# EAGLE library part TMP75C (library My_TI)
TMP75C 1.8-V Digital Temperature Sensor. • Operating Supply Range: 1.4 V to 3.6 V • Quiescent Current: – 15 μA Active (typ) – 0.3 μA Shutdown (typ) • Resolution: 12 Bits (0.0625°C) Datasheet <http://www.ti.com/lit/ds/symlink/tmp75c.pdf>
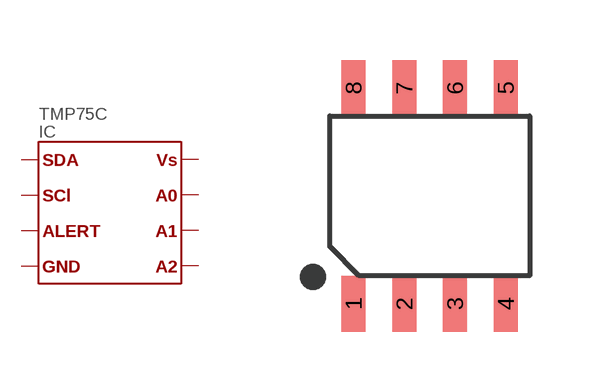
[diagram p52: symbol with the pads of SOIC8-1.27-5X4MM; footprint SOIC8-1.27-5X4MM]

Designator prefix IC

## TMP75C  [SOIC8-1.27-5X4MM]
1  P$1
2  P$2
3  P$3
4  P$4
5  P$5
6  P$6
7  P$7
8  P$8

## Footprint SOIC8-1.27-5X4MM (pad centres in mm)
smd 0.6 x 1.4: 1 -1.905,-2.7; 2 -0.635,-2.7; 3 0.635,-2.7; 4 1.905,-2.7; 5 1.905,2.7; 6 0.635,2.7; 7 -0.635,2.7; 8 -1.905,2.7